# Altium footprint library 691 386 700 0xx.PcbLib: 17 footprints (part 1 of 2)
Each footprint in its own frame and in the unit in brackets; x right, y up, seen from the top. Pads: shape width x height; smd on the part's side, far side on the other; paste and mask are expansions set on the pad; w line width, h text height; cw(c..) or ccw(c..) is an arc to the next point about the centre after c.
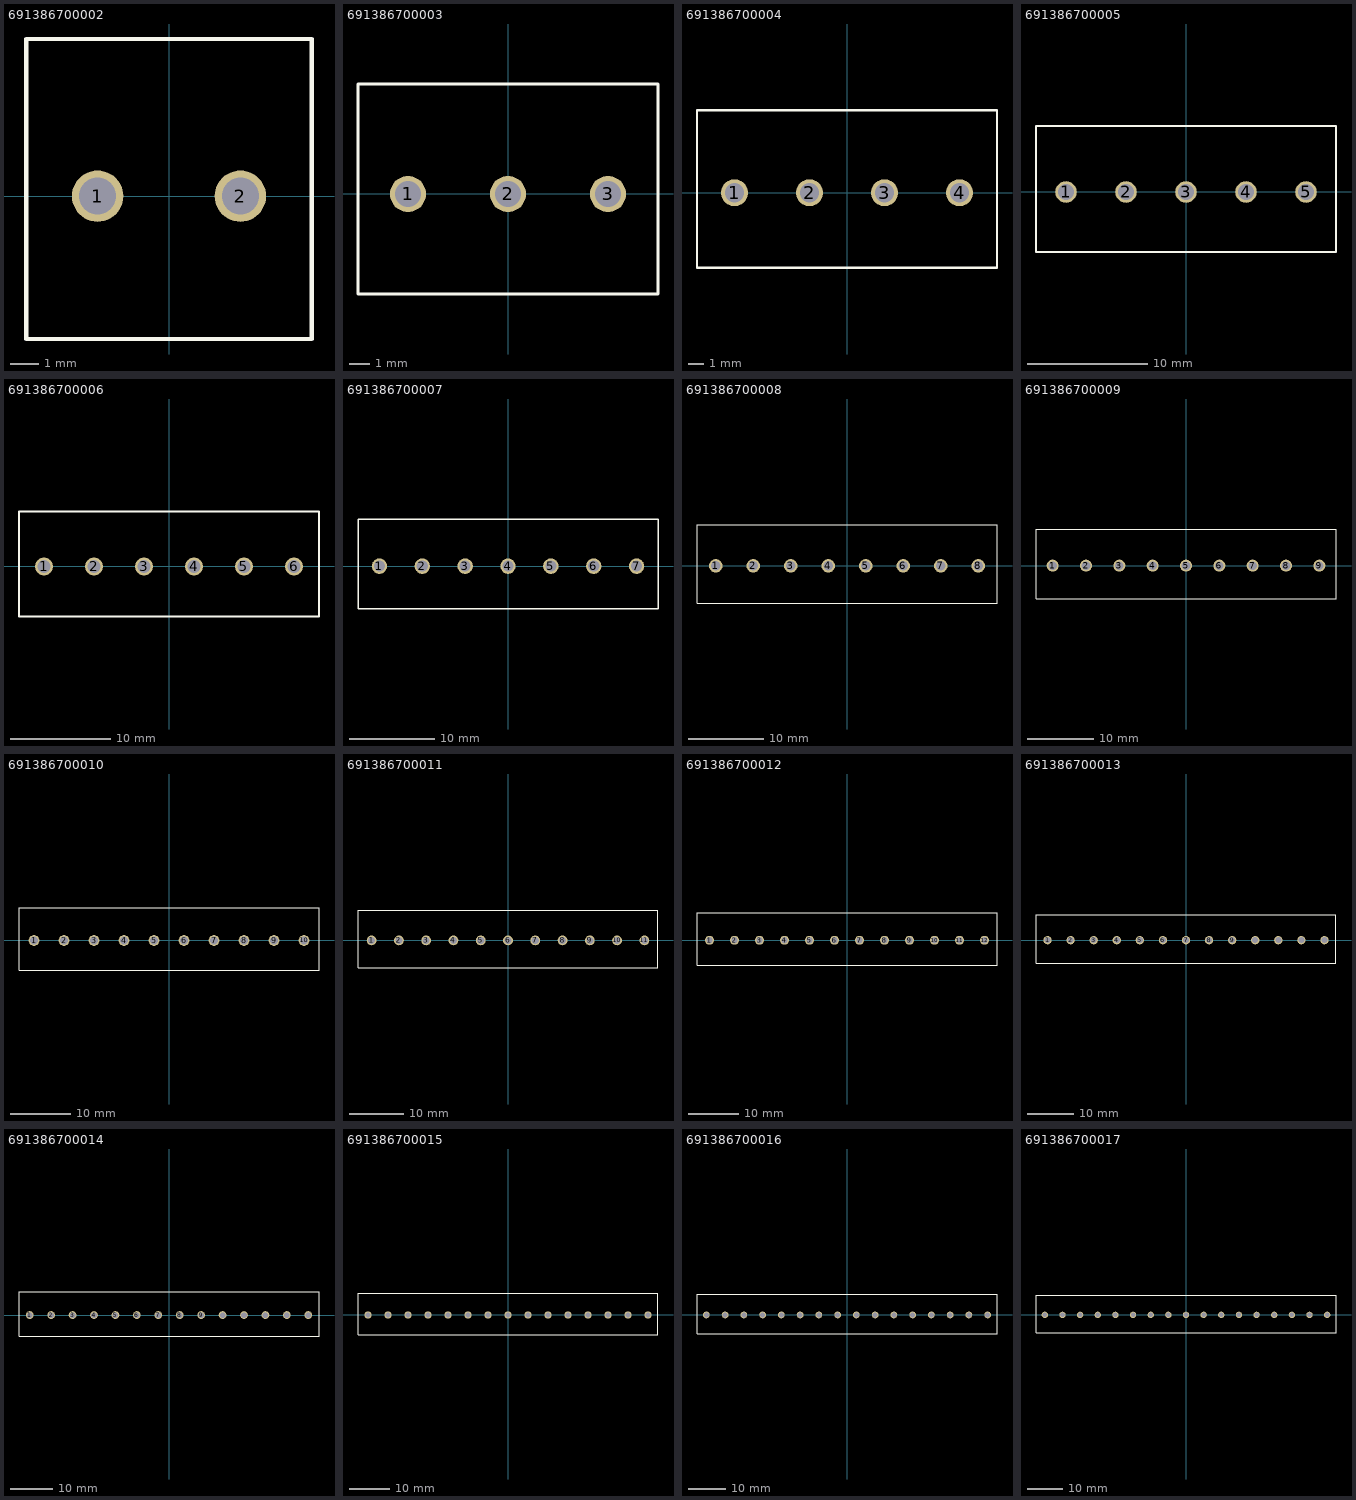
[diagram p0: the footprints below, top view; thin cyan lines are the x and y axes]

## 691386700002 [mm] "SERIE 3867 - 5.00 MM - PCB HEADER (HORIZONTAL / VERTICAL) - WR-TBL"
height 10.9
pads (2):
  round 1.8 hole 1.3: 1(-2.5,0) 2(2.5,0)
Top Overlay:
  lines w0.152: -5,-5 -5,5.5 5,5.5 5,-5 -5,-5
3D body: height 10.93, standoff -4.07, extent -5,-5 5,5.5

## 691386700003 [mm] "SERIE 3867 - 5.00 MM - PCB HEADER (HORIZONTAL / VERTICAL) - WR-TBL"
height 10.9
pads (3):
  round 1.8 hole 1.3: 1(-5,0) 2(0,0) 3(5,0)
Top Overlay:
  lines w0.152: -7.5,-5 -7.5,5.5 7.5,5.5 7.5,-5 -7.5,-5
3D body: height 10.93, standoff -4.07, extent -7.5,-5 7.5,5.5

## 691386700004 [mm] "SERIE 3867 - 5.00 MM - PCB HEADER (HORIZONTAL / VERTICAL) - WR-TBL"
height 10.9
pads (4):
  round 1.8 hole 1.3: 1(-7.5,0) 2(-2.5,0) 3(2.5,0) 4(7.5,0)
Top Overlay:
  lines w0.152: -10,-5 -10,5.5 10,5.5 10,-5 -10,-5
3D body: height 10.93, standoff -4.07, extent -10,-5 10,5.5

## 691386700005 [mm] "SERIE 3867 - 5.00 MM - PCB HEADER (HORIZONTAL / VERTICAL) - WR-TBL"
height 10.9
pads (5):
  round 1.8 hole 1.3: 1(-10,0) 2(-5,0) 3(0,0) 4(5,0) 5(10,0)
Top Overlay:
  lines w0.152: -12.5,-5 -12.5,5.5 12.5,5.5 12.5,-5 -12.5,-5
3D body: height 10.93, standoff -4.07, extent -12.5,-5 12.5,5.5

## 691386700006 [mm] "SERIE 3867 - 5.00 MM - PCB HEADER (HORIZONTAL / VERTICAL) - WR-TBL"
height 10.9
pads (6):
  round 1.8 hole 1.3: 1(-12.5,0) 2(-7.5,0) 3(-2.5,0) 4(2.5,0) 5(7.5,0) 6(12.5,0)
Top Overlay:
  lines w0.152: -15,-5 15,-5 15,5.5 -15,5.5 -15,-5
3D body: height 10.93, standoff -4.07, extent -15,-5 15,5.5

## 691386700007 [mm] "SERIE 3867 - 5.00 MM - PCB HEADER (HORIZONTAL / VERTICAL) - WR-TBL"
height 10.9
pads (7):
  round 1.8 hole 1.3: 1(-15,0) 2(-10,0) 3(-5,0) 4(0,0) 5(5,0) 6(10,0) 7(15,0)
Top Overlay:
  lines w0.152: -17.5,-5 17.5,-5 17.5,5.5 -17.5,5.5 -17.5,-5
3D body: height 10.93, standoff -4.07, extent -17.5,-5 17.5,5.5

## 691386700008 [mm] "SERIE 3867 - 5.00 MM - PCB HEADER (HORIZONTAL / VERTICAL) - WR-TBL"
height 10.9
pads (8):
  round 1.8 hole 1.3: 1(-17.5,0) 2(-12.5,0) 3(-7.5,0) 4(-2.5,0) 5(2.5,0) 6(7.5,0) 7(12.5,0) 8(17.5,0)
Top Overlay:
  lines w0.152: -20,-5 20,-5 20,5.5 -20,5.5 -20,-5
3D body: height 10.93, standoff -4.07, extent -20,-5 20,5.5

## 691386700009 [mm] "SERIE 3867 - 5.00 MM - PCB HEADER (HORIZONTAL / VERTICAL) - WR-TBL"
height 10.9
pads (9):
  round 1.8 hole 1.3: 1(-20,0) 2(-15,0) 3(-10,0) 4(-5,0) 5(0,0) 6(5,0) 7(10,0) 8(15,0) 9(20,0)
Top Overlay:
  lines w0.152: -22.5,-5 22.5,-5 22.5,5.5 -22.5,5.5 -22.5,-5
3D body: height 10.93, standoff -4.07, extent -22.5,-5 22.5,5.5

## 691386700010 [mm] "SERIE 3867 - 5.00 MM - PCB HEADER (HORIZONTAL / VERTICAL) - WR-TBL"
height 10.9
pads (10):
  round 1.8 hole 1.3: 1(-22.5,0) 2(-17.5,0) 3(-12.5,0) 4(-7.5,0) 5(-2.5,0) 6(2.5,0) 7(7.5,0) 8(12.5,0) 9(17.5,0) 10(22.5,0)
Top Overlay:
  lines w0.152: -25,-5 25,-5 25,5.5 -25,5.5 -25,-5
3D body: height 10.93, standoff -4.07, extent -25,-5 25,5.5

## 691386700011 [mm] "SERIE 3867 - 5.00 MM - PCB HEADER (HORIZONTAL / VERTICAL) - WR-TBL"
height 10.9
pads (11):
  round 1.8 hole 1.3: 1(-25,0) 2(-20,0) 3(-15,0) 4(-10,0) 5(-5,0) 6(0,0) 7(5,0) 8(10,0) 9(15,0) 10(20,0) 11(25,0)
Top Overlay:
  lines w0.152: -27.5,-5 -27.5,5.5 27.5,5.5 27.5,-5 -27.5,-5
3D body: height 10.93, standoff -4.07, extent -27.5,-5 27.5,5.5

## 691386700012 [mm] "SERIE 3867 - 5.00 MM - PCB HEADER (HORIZONTAL / VERTICAL) - WR-TBL"
height 10.9
pads (12):
  round 1.8 hole 1.3: 1(-27.5,0) 2(-22.5,0) 3(-17.5,0) 4(-12.5,0) 5(-7.5,0) 6(-2.5,0) 7(2.5,0) 8(7.5,0) 9(12.5,0) 10(17.5,0) 11(22.5,0) 12(27.5,0)
Top Overlay:
  lines w0.152: -30,-5 -30,5.5 30,5.5 30,-5 -30,-5
3D body: height 10.93, standoff -4.07, extent -30,-5 30,5.5

## 691386700013 [mm] "SERIE 3867 - 5.00 MM - PCB HEADER (HORIZONTAL / VERTICAL) - WR-TBL"
height 10.9
pads (13):
  round 1.8 hole 1.3: 1(-30,0) 2(-25,0) 3(-20,0) 4(-15,0) 5(-10,0) 6(-5,0) 7(0,0) 8(5,0) 9(10,0) 10(15,0) 11(20,0) 12(25,0) 13(30,0)
Top Overlay:
  lines w0.152: -32.5,-5 32.5,-5 32.5,5.5 -32.5,5.5 -32.5,-5
3D body: height 10.93, standoff -4.07, extent -32.5,-5 32.5,5.5

## 691386700014 [mm] "SERIE 3867 - 5.00 MM - PCB HEADER (HORIZONTAL / VERTICAL) - WR-TBL"
height 10.9
pads (14):
  round 1.8 hole 1.3: 1(-32.5,0) 2(-27.5,0) 3(-22.5,0) 4(-17.5,0) 5(-12.5,0) 6(-7.5,0) 7(-2.5,0) 8(2.5,0) 9(7.5,0) 10(12.5,0) 11(17.5,0) 12(22.5,0) 13(27.5,0) 14(32.5,0)
Top Overlay:
  lines w0.152: -35,-5 35,-5 35,5.5 -35,5.5 -35,-5
3D body: height 10.93, standoff -4.07, extent -35,-5 35,5.5

## 691386700015 [mm] "SERIE 3867 - 5.00 MM - PCB HEADER (HORIZONTAL / VERTICAL) - WR-TBL"
height 10.9
pads (15):
  round 1.8 hole 1.3: 1(-35,0) 2(-30,0) 3(-25,0) 4(-20,0) 5(-15,0) 6(-10,0) 7(-5,0) 8(0,0) 9(5,0) 10(10,0) 11(15,0) 12(20,0) 13(25,0) 14(30,0) 15(35,0)
Top Overlay:
  lines w0.152: -37.5,-5 37.5,-5 37.5,5.5 -37.5,5.5 -37.5,-5
3D body: height 10.93, standoff -4.07, extent -37.5,-5 37.5,5.5

## 691386700016 [mm] "SERIE 3867 - 5.00 MM - PCB HEADER (HORIZONTAL / VERTICAL) - WR-TBL"
height 10.9
pads (16):
  round 1.8 hole 1.3: 1(-37.5,0) 2(-32.5,0) 3(-27.5,0) 4(-22.5,0) 5(-17.5,0) 6(-12.5,0) 7(-7.5,0) 8(-2.5,0) 9(2.5,0) 10(7.5,0) 11(12.5,0) 12(17.5,0) 13(22.5,0) 14(27.5,0) 15(32.5,0) 16(37.5,0)
Top Overlay:
  lines w0.152: -40,-5 -40,5.5 40,5.5 40,-5 -40,-5
3D body: height 10.93, standoff -4.07, extent -40,-5 40,5.5

## 691386700017 [mm] "SERIE 3867 - 5.00 MM - PCB HEADER (HORIZONTAL / VERTICAL) - WR-TBL"
height 10.9
pads (17):
  round 1.8 hole 1.3: 1(-40,0) 2(-35,0) 3(-30,0) 4(-25,0) 5(-20,0) 6(-15,0) 7(-10,0) 8(-5,0) 9(0,0) 10(5,0) 11(10,0) 12(15,0) 13(20,0) 14(25,0) 15(30,0) 16(35,0) 17(40,0)
Top Overlay:
  lines w0.152: -42.5,-5 -42.5,5.5 42.5,5.5 42.5,-5 -42.5,-5
3D body: height 10.93, standoff -4.07, extent -42.5,-5 42.5,5.5